# EAGLE library part DMG1024UV-7 (library mosfet)
Mosfet Array 2 N-Channel (Dual) 20V 1.38A 530mW Surface Mount SOT-563
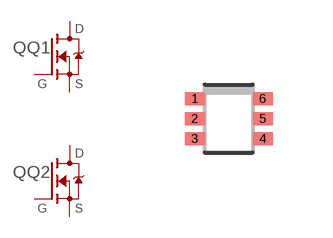
[diagram p1: symbol with the pads of SOT-563; footprint SOT-563]

Designator prefix Q; gates Q1=N-MOSFET Q2=N-MOSFET

## DMG1024UV-7 (DIGIKEY#: DMG1024UV-7DICT-ND; MANF: Diodes Incorporated; MANF#: DMG1024UV-7; PACKAGE: SOT-563)  [SOT-563]
1  Q1:S  pas
2  Q1:G  pas
3  Q2:D  pas
4  Q2:S  pas
5  Q2:G  pas
6  Q1:D  pas

## Footprint SOT-563 (pad centres in mm)
smd 0.5 x 0.325: 1 -0.85,0.5; 2 -0.85,0; 3 -0.85,-0.5; 4 0.85,-0.5; 5 0.85,0; 6 0.85,0.5